# Altium footprint library Resonators.PcbLib: 8 footprints
Each footprint in its own frame and in the unit in brackets; x right, y up, seen from the top. Pads: shape width x height; smd on the part's side, far side on the other; paste and mask are expansions set on the pad; w line width, h text height; cw(c..) or ccw(c..) is an arc to the next point about the centre after c.
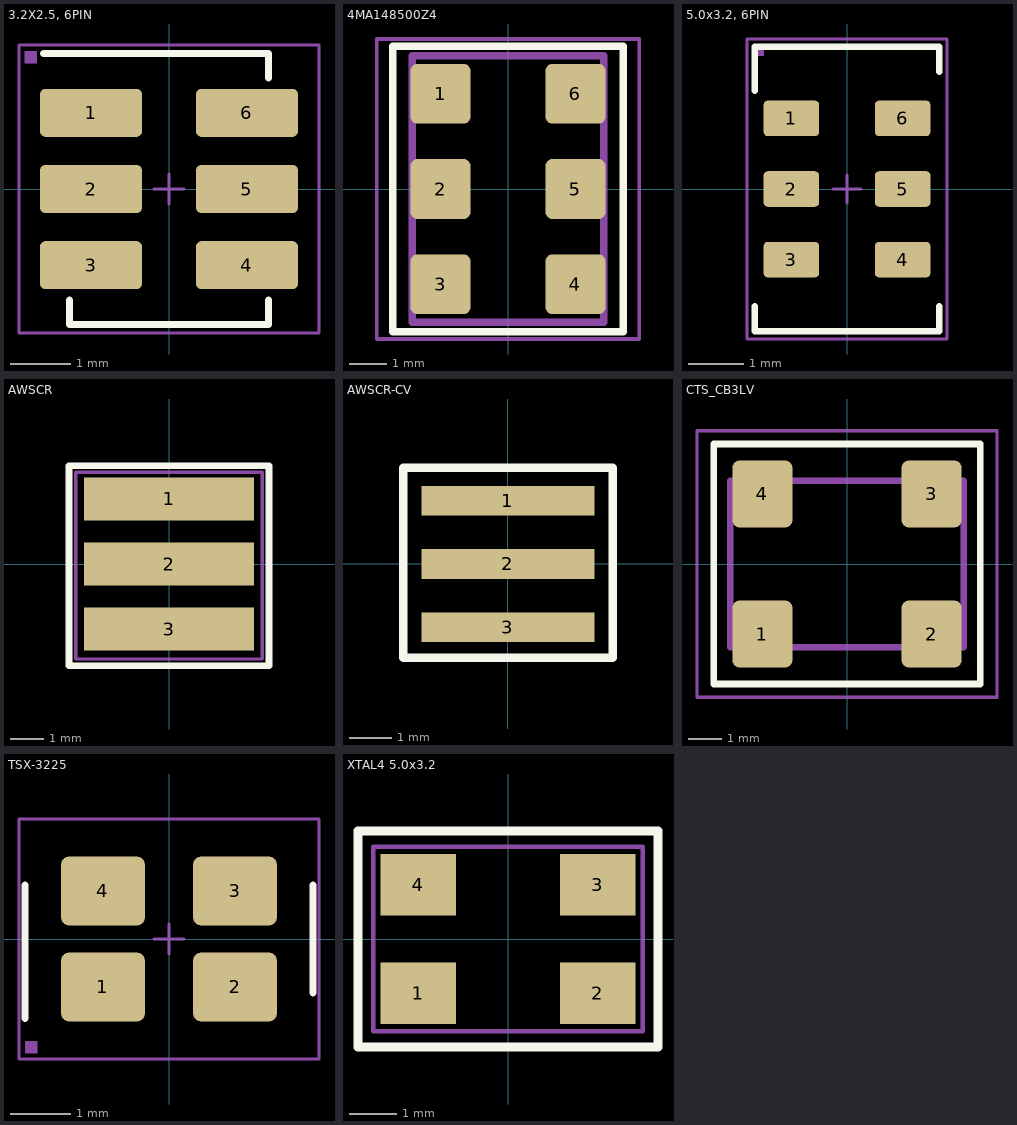
[diagram p0: the footprints below, top view; thin cyan lines are the x and y axes]

## 3.2X2.5, 6PIN [mm] "3.2mm x 2.5mm, 6 pin oscillator"
height 1.28
pads (6):
  rrect23% 1.7x0.8 smd: 1(-1.3,1.27) 2(-1.3,0) 3(-1.3,-1.27) 4(1.3,-1.27) 5(1.3,0) 6(1.3,1.27)
Top Overlay:
  lines w0.12: -2.09,2.26 1.66,2.26 1.66,1.85 ; -1.66,-1.85 -1.66,-2.26 1.66,-2.26 1.66,-1.85
15. Courtyard TOP:
  lines w0.05: -0.25,0 0.25,0 ; 0,-0.25 0,0.25 ; -2.5,-2.4 2.5,-2.4 2.5,2.4 -2.5,2.4 -2.5,-2.4
18. Assembly TOP:
  region: -2.4,2.3 -2.2,2.3 -2.2,2.1 -2.4,2.1
  lines w0.05: -2.5,-2.4 -2.5,2.4 2.5,2.4 2.5,-2.4 -2.5,-2.4
  text ".designator" at -2.2,-0.5 h1.2
3D body: height 1.17, standoff 0, extent -1.6,-2.2 1.6,2.2

## 4MA148500Z4 [mm] "SMD 6L 7.0 x 5.0mm oscillator package"
height 0.9
pads (6):
  rrect23% 1.6x1.6 smd: 1(-1.8,2.54) 2(-1.8,0) 3(-1.8,-2.54) 4(1.8,-2.54) 5(1.8,0) 6(1.8,2.54)
Top Overlay:
  lines w0.2: -3.073,-3.8 -3.073,3.8 3.073,3.8 3.073,-3.8 -3.073,-3.8
15. Courtyard TOP:
  lines w0.1: -3.5,-4 -3.5,4 3.5,4 3.5,-4 -3.5,-4
  text "." at -2.5,3.5 h1
  text ".designator" at -1.5,-0.5 h1
17. Comp.body:
  lines w0.2: -2.55,-3.55 2.55,-3.55 2.55,3.55 -2.55,3.55 -2.55,-3.55

## 5.0x3.2, 6PIN [mm] "5.0mm x 3.2mm, 6PIN"
height 0.85
pads (6):
  rrect23% 1x0.64 smd: 1(-1,1.27) 2(-1,0) 3(-1,-1.27) 4(1,-1.27) 5(1,0) 6(1,1.27)
Top Overlay:
  lines w0.12: -1.66,-2.11 -1.66,-2.56 1.66,-2.56 1.66,-2.11 ; -1.66,1.77 -1.66,2.56 1.66,2.56 1.66,2.11
15. Courtyard TOP:
  lines w0.05: -0.25,0 0.25,0 ; 0,-0.25 0,0.25 ; -1.8,-2.7 1.8,-2.7 1.8,2.7 -1.8,2.7 -1.8,-2.7
18. Assembly TOP:
  region: -1.7,2.6 -1.5,2.6 -1.5,2.4 -1.7,2.4
  lines w0.05: -1.8,-2.7 -1.8,2.7 1.8,2.7 1.8,-2.7 -1.8,-2.7
  text ".designator" at 0.6,-2.2 h1.2
3D body: height 0.85, standoff 0, extent -1.6,-2.5 1.6,2.5

## AWSCR [mm]
pads (3):
  rect 5.1x1.3 smd: 1(0,1.95) 2(0,0) 3(0,-1.95)
Top Overlay:
  lines w0.2: -3,-3.05 3,-3.05 3,2.95 -3,2.95 -3,-3.05
15. Courtyard TOP:
  lines w0.1: -2.8,-2.85 -2.8,2.75 2.8,2.75 2.8,-2.85 -2.8,-2.85
  text ".designator" at -1.6,-0.45 h1

## AWSCR-CV [mm]
pads (3):
  rect 4.1x0.7 smd: 1(0,1.5) 2(0,0) 3(0,-1.5)
Top Overlay:
  lines w0.2: -2.48,-2.22 -2.48,2.275 2.48,2.275 2.48,-2.22 -2.48,-2.22
15. Courtyard TOP:
  lines w0.1: -2.48,-2.22 2.48,-2.22 2.48,2.275 -2.48,2.275 -2.48,-2.22
  text ".designator" at -1,-0.5 h1
3D body: height 2, standoff 0, extent -1.5,-2 1.5,2

## CTS_CB3LV [mm]
height 1.7
pads (4):
  rrect23% 1.8x2 smd: 1(-2.54,-2.1) 2(2.54,-2.1) 3(2.54,2.1) 4(-2.54,2.1)
Top Overlay:
  lines w0.2: -4,-3.6 4,-3.6 4,3.6 -4,3.6 -4,-3.6
15. Courtyard TOP:
  lines w0.1: -4.5,-4 -4.5,4 4.5,4 4.5,-4 -4.5,-4
  text ".designator" at -1.5,-0.5 h1
  text "." at -3.5,-3 h1
17. Comp.body:
  lines w0.2: -3.5,-2.5 -3.5,2.5 3.5,2.5 3.5,-2.5 -3.5,-2.5
  text "." at -3,-2 h1
3D body: height 1.7, standoff 0, extent -3.5,-2.5 3.5,2.5

## TSX-3225 [mm] "Epson crystal package"
height 0.6
pads (4):
  rrect23% 1.4x1.15 smd: 1(-1.1,-0.8) 2(1.1,-0.8) 3(1.1,0.8) 4(-1.1,0.8)
Top Overlay:
  lines w0.12: -2.4,-1.325 -2.4,0.9 ; 2.4,-0.9 2.4,0.9
15. Courtyard TOP:
  lines w0.05: -0.25,0 0.25,0 ; 0,-0.25 0,0.25 ; -2.5,-2 2.5,-2 2.5,2 -2.5,2 -2.5,-2
18. Assembly TOP:
  region: -2.4,-1.9 -2.4,-1.7 -2.2,-1.7 -2.2,-1.9
  lines w0.05: -2.5,-2 2.5,-2 2.5,2 -2.5,2 -2.5,-2
  text ".designator" at -2.2,-0.55 h1.2

## XTAL4 5.0x3.2 [mm] "Crystal 4-pin 5.0x3.2mm"
pads (4):
  rect 1.6x1.3 smd: 1(-1.9,-1.15) 2(1.9,-1.15) 3(1.9,1.15) 4(-1.9,1.15)
Top Overlay:
  lines w0.2: -3.175,-2.286 3.175,-2.286 3.175,2.286 -3.175,2.286 -3.175,-2.286
15. Courtyard TOP:
  lines w0.1: -2.85,-1.95 -2.85,1.95 2.85,1.95 2.85,-1.95 -2.85,-1.95
  text ".designator" at -1.524,-0.762 h1.6
  text "." at -2.464,-1.575 h1
3D body: height 0.9, standoff -0.05, extent -2.5,-1.6 2.5,1.6